# Altium footprint library MyPcbLib.PcbLib: 43 footprints (part 2 of 3)
Each footprint in its own frame and in the unit in brackets; x right, y up, seen from the top. Pads: shape width x height; smd on the part's side, far side on the other; paste and mask are expansions set on the pad; w line width, h text height; cw(c..) or ccw(c..) is an arc to the next point about the centre after c.
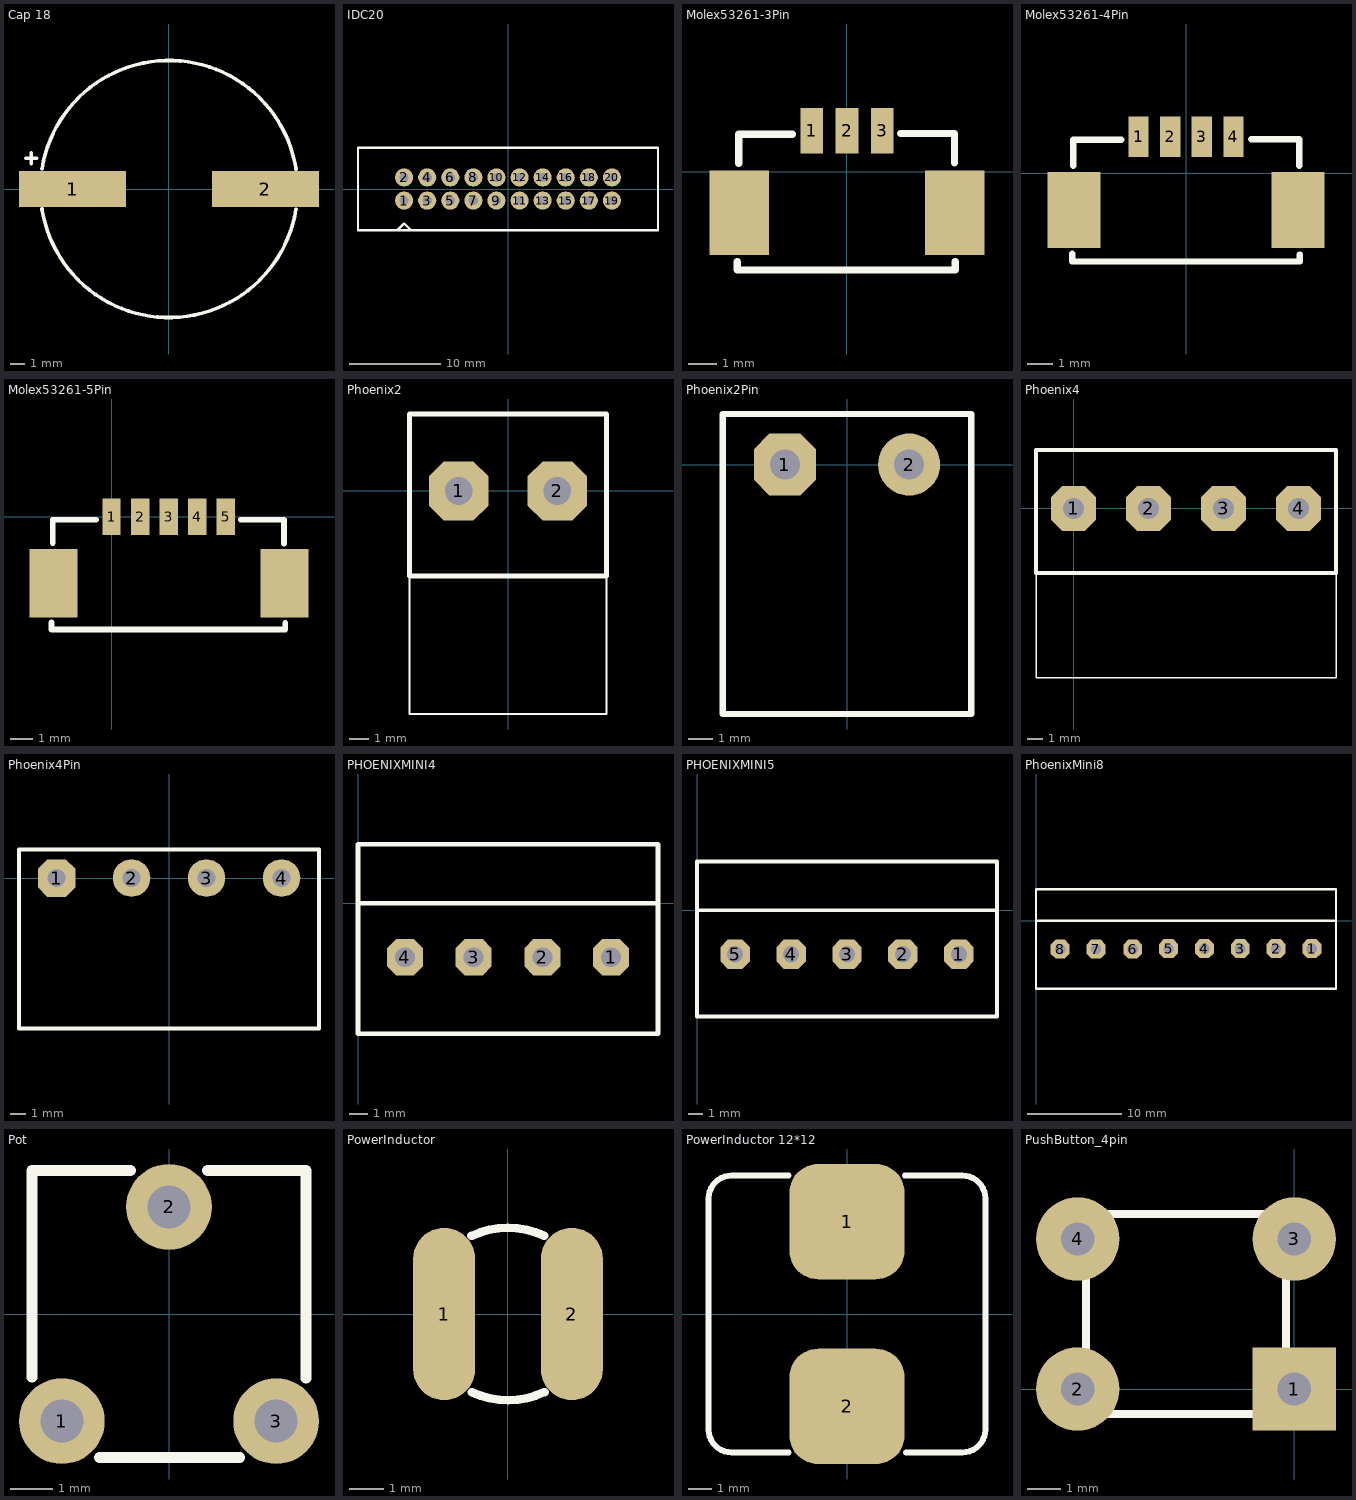
[diagram p1: the footprints below, top view; thin cyan lines are the x and y axes]

## Cap 18 [mm]
pads (2):
  rect 7.5x2.5 smd: 1(-6.75,0) 2(6.75,0)
Top Overlay:
  lines w0.254: -10.033,2.159 -9.271,2.159 ; -9.652,1.778 -9.652,2.54 ; -8.893,-1.382 ccw(c0,0) 8.886,-1.426 ; -8.886,1.426 cw(c0,0) 8.893,1.382

## IDC20 [mm]
height 10
pads (20):
  round 2 hole 1.02: 1(-11.43,-1.27) 2(-11.43,1.27) 3(-8.89,-1.27) 4(-8.89,1.27) 5(-6.35,-1.27) 6(-6.35,1.27) 7(-3.81,-1.27) 8(-3.81,1.27) 9(-1.27,-1.27) 10(-1.27,1.27) 11(1.27,-1.27) 12(1.27,1.27) 13(3.81,-1.27) 14(3.81,1.27) 15(6.35,-1.27) 16(6.35,1.27) 17(8.89,-1.27) 18(8.89,1.27) 19(11.43,-1.27) 20(11.43,1.27)
Top Overlay:
  lines w0.254: -12.175,-4.5 -12.15,-4.5 -11.45,-3.8 -11.45,-3.85 -11.35,-3.85 -10.7,-4.5 ; -16.5,-4.55 16.5,-4.55 16.5,4.55 -16.5,4.55 -16.5,-4.55
3D body: height 9, standoff -3.2, extent -16.375,-4.25 16.325,4.25

## Molex53261-3Pin [mm]
height 3.4
pads (5):
  rect 0.8x1.6 smd: 1(-1.25,1.45) 2(0,1.45) 3(1.25,1.45)
  rect 2.1x3 smd: ""(-3.8,-1.45) ""(3.8,-1.45)
Top Overlay:
  lines w0.254: -3.875,-3.175 -3.875,-3.475 3.825,-3.475 3.825,-3.175 ; -3.825,0.3 -3.825,1.325 -1.925,1.325 ; 1.9,1.35 3.8,1.35 ; 3.8,0.313 3.8,1.337
3D body: height 3.4, standoff 0, extent -4.45,-3.575 4.45,1.625

## Molex53261-4Pin [mm]
height 3.4
pads (6):
  rect 0.8x1.6 smd: 1(-1.875,1.45) 2(-0.625,1.45) 3(0.625,1.45) 4(1.875,1.45)
  rect 2.1x3 smd: ""(-4.425,-1.45) ""(4.425,-1.45)
Top Overlay:
  lines w0.254: -4.5,-3.175 -4.5,-3.475 4.5,-3.475 4.5,-3.2 ; -4.45,0.3 -4.45,1.325 -2.55,1.325 ; 2.575,1.35 4.475,1.35 ; 4.475,0.313 4.475,1.337
3D body: height 3.4, standoff 0, extent -5.05,-3.65 5.1,1.55

## Molex53261-5Pin [mm]
height 3.4
pads (7):
  rect 0.8x1.6 smd: 1(0,0) 2(1.25,0) 3(2.5,0) 4(3.75,0) 5(5,0)
  rect 2.1x3 smd: ""(-2.55,-2.9) ""(7.575,-2.9)
Top Overlay:
  lines w0.254: -2.625,-4.625 -2.625,-4.925 7.6,-4.925 7.6,-4.65 ; -2.575,-1.15 -2.575,-0.125 -0.675,-0.125 ; 5.65,-0.125 7.55,-0.125 ; 7.55,-1.162 7.55,-0.138
3D body: height 3.4, standoff 0, extent -3.2,-5.075 8.2,0.125

## Phoenix2 [mm]
height 19
pads (2):
  oct 3x3 hole 1.4: 1(-2.5,0) 2(2.5,0)
Top Overlay:
  lines w0.1: -5,-4.3 -5,-11.3 5,-11.3 5,-4.3
  lines w0.254: -5,-4.3 5,-4.3 5,3.9 -5,3.9 -5,-4.3
3D body: height 19, standoff 0, extent -4.999,-4.299 4.999,3.899
3D body: height 19, standoff 12.5, extent -4.999,-11.299 4.999,-4.301

## Phoenix2Pin [mm]
height 8.5
pads (2):
  oct 2.5x2.5 hole 1.2: 1(-2.5,0)
  round 2.5 hole 1.2: 2(2.5,0)
Top Overlay:
  lines w0.254: -5,-10.033 5,-10.033 5,2.032 -5,2.032 -5,-10.033
3D body: height 8.6, standoff -3.5, extent -5,-9.937 5,2.063

## Phoenix4 [mm]
pads (4):
  oct 3x3 hole 1.4: 1(0,0) 2(5,0) 3(10,0) 4(15,0)
Top Overlay:
  lines w0.1: -2.5,-4.3 -2.5,-11.3 7.5,-11.3 17.5,-11.3 17.5,-4.3
  lines w0.254: -2.5,-4.3 7.5,-4.3 17.5,-4.3 17.5,3.9 7.5,3.9 -2.5,3.9 -2.5,-4.3
3D body: height 19, standoff 12.5, extent 7.501,-11.299 17.499,-4.301
3D body: height 19, standoff 0, extent 7.501,-4.299 17.499,3.899
3D body: height 19, standoff 0, extent -2.499,-4.299 7.499,3.899
3D body: height 19, standoff 12.5, extent -2.499,-11.299 7.499,-4.301

## Phoenix4Pin [mm]
height 8.5
pads (4):
  oct 2.5x2.5 hole 1.2: 1(-7.5,0)
  round 2.5 hole 1.2: 2(-2.5,0) 3(2.5,0) 4(7.5,0)
Top Overlay:
  lines w0.254: -10,-10.033 -10,1.905 10,1.905 10,-10.033 -10,-10.033
3D body: height 8.6, standoff -3.5, extent -9.967,-10.064 10.033,1.936

## PHOENIXMINI4 [mm]
height 9.2
pads (4):
  oct 2x2 hole 1.1: 1(14.035,-3) 2(10.225,-3) 3(6.415,-3) 4(2.605,-3)
Top Overlay:
  lines w0.254: 0,0 16.64,0 ; 0,0 0,-7.25 16.64,-7.25 16.64,0 ; 0,0 0,3.275 16.64,3.275 16.64,0
3D body: height 19.27, standoff -2.83, extent 0.01,-7.825 16.64,3.275

## PHOENIXMINI5 [mm]
height 9.2
pads (5):
  oct 2x2 hole 1.1: 1(17.84,-3) 2(14.03,-3) 3(10.22,-3) 4(6.41,-3) 5(2.6,-3)
Top Overlay:
  lines w0.254: 0,0 0,3.325 20.44,3.325 20.44,0 ; 0,0 20.44,0 ; 0,0 0,-7.25 20.44,-7.25 20.44,0
3D body: height 19.27, standoff -2.83, extent 0,-7.775 20.44,3.325

## PhoenixMini8 [mm]
height 9.2
pads (8):
  oct 2x2 hole 1.1: 1(29.335,-2.975) 2(25.525,-2.975) 3(21.715,-2.975) 4(17.905,-2.975) 5(14.095,-2.975) 6(10.285,-3.025) 7(6.375,-3.025) 8(2.565,-3.025)
Top Overlay:
  lines w0.254: 0,0 0,3.35 31.9,3.35 31.9,0 ; 0,0 31.9,0 ; 0,0 0,-7.25 31.9,-7.25 31.9,0
3D body: height 19.48, standoff -2.62, extent 0.037,-7.775 31.913,3.325

## Pot [mm]
height 10
pads (3):
  round 2 hole 1: 1(-2.5,-2.5) 2(0,2.5) 3(2.5,-2.5)
Top Overlay:
  lines w0.254: -3.2,-1.475 -3.2,3.35 -0.9,3.35 ; -1.625,-3.35 1.651,-3.35 ; 0.9,3.35 3.2,3.35 3.2,-1.5
3D body: height 7.7, standoff -3.1, extent -3.275,-3.293 3.225,3.95

## PowerInductor [mm]
height 3
pads (2):
  oval 1.8x5 smd: 1(-1.85,0) 2(1.85,0)
Top Overlay:
  lines w0.254: -1.056,2.266 cw(c0,0) 1.043,2.272 ; -1.043,-2.272 ccw(c0,0) 1.056,-2.266
3D body: height 3, standoff 0, extent -2.411,-2.411 2.411,2.411

## PowerInductor 12*12 [mm]
height 6
pads (2):
  rrect50% 5x5 smd: 1(0,4) 2(0,-4)
Top Overlay:
  lines w0.254: -2.525,-6 -5,-6 cw(c-5,-5) -6,-5 -6,5 cw(c-5,5) -5,6 -2.525,6 ; 2.5,6 5,6 cw(c5,5) 6,5 6,-5 cw(c5,-5) 5,-6 2.55,-6
3D body: height 6.21, standoff -0.09, extent -6.125,-6.1 6.075,6.1

## PushButton_4pin [mm]
height 4.1
pads (4):
  rect 2.5x2.5 hole 1: 1(0,0)
  round 2.5 hole 1: 2(-6.5,0) 3(0,4.5) 4(-6.5,4.5)
Top Overlay:
  lines w0.254: -6.25,-0.75 -0.25,-0.75 -0.25,5.25 -6.25,5.25 -6.25,-0.75
3D body: height 4.35, standoff 0, extent -6.25,-0.75 -0.25,5.25